# EAGLE library part AMS_AS5048B-HTSP (library Upverter Library)
AMS-AS5048B-TSSOP-14
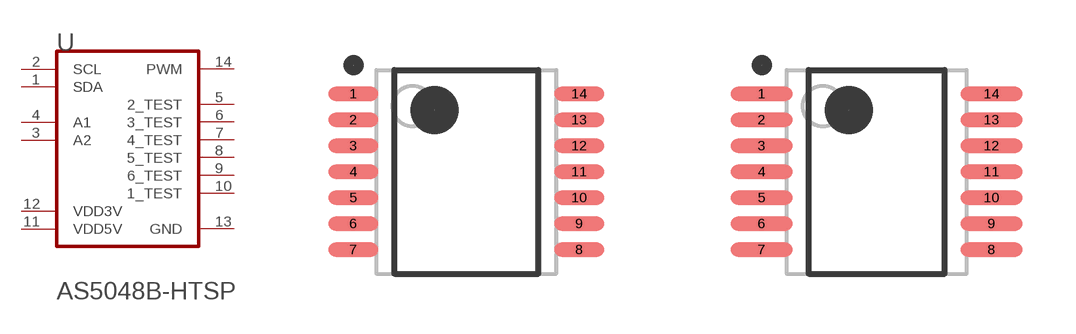
[diagram p0: symbol with the pads of AMS_AS5048B-HTSP_0; footprints AMS_AS5048B-HTSP_0, AMS_AS5048B-HTSP_1]

Designator prefix U

## AMS_AS5048B-HTSPAMS_AS5048B-HTSP_0_0 (Code__JEDEC: MO-153; Component_Link_1_Description: Manufacturer URL; Component_Link_1_URL: www.ams.com; Datasheet_Version: Rev. 1.3; Features: IÂ2C, PWM, In System Programmable; MF: AMS; MPN: AS5048B-HTSP; Mounting_Technology: Surface Mount; Output: IÂ2C, PWM; Package_Description: 14-Pin Small Outline Package, 5 x 4.4 mm Body, 0.65 mm Pitch; Package_Version: Rev. 2.7, 10/2010; Resolution: 14-bit; Supply_Voltage_V: 3.3 or 5.0; ciiva_ids: 4309606; datasheet: http://www.ams.com/eng/content/download/438523/1341157/143016; footprint_variant_name_0: Level C; footprint_variant_name_1: Level B; footprint_variant_name_2: Level A; import_ts: 1521856276; imported: yes; imported_from: vault; package: TSSOP-14; prefix: U; release_date: 1394513987; vault_guid: D2F2B1B8-6CC1-41D2-B61F-B80A391146BC; vault_revision: BD625296-4CE3-41FD-9A5A-ADE005AEECC9)  [AMS_AS5048B-HTSP_0]
1  SDA
2  SCL  in
3  A2  in
4  A1  in
5  2_TEST  in
6  3_TEST  in
7  4_TEST  in
8  5_TEST  in
9  6_TEST  in
10  1_TEST  in
11  VDD5V  pwr
12  VDD3V  pwr
13  GND  pwr
14  PWM  out

## AMS_AS5048B-HTSPAMS_AS5048B-HTSP_0_1 (Code__JEDEC: MO-153; Component_Link_1_Description: Manufacturer URL; Component_Link_1_URL: www.ams.com; Datasheet_Version: Rev. 1.3; Features: IÂ2C, PWM, In System Programmable; MF: AMS; MPN: AS5048B-HTSP; Mounting_Technology: Surface Mount; Output: IÂ2C, PWM; Package_Description: 14-Pin Small Outline Package, 5 x 4.4 mm Body, 0.65 mm Pitch; Package_Version: Rev. 2.7, 10/2010; Resolution: 14-bit; Supply_Voltage_V: 3.3 or 5.0; ciiva_ids: 4309606; datasheet: http://www.ams.com/eng/content/download/438523/1341157/143016; footprint_variant_name_0: Level C; footprint_variant_name_1: Level B; footprint_variant_name_2: Level A; import_ts: 1521856276; imported: yes; imported_from: vault; package: TSSOP-14; prefix: U; release_date: 1394513987; vault_guid: D2F2B1B8-6CC1-41D2-B61F-B80A391146BC; vault_revision: BD625296-4CE3-41FD-9A5A-ADE005AEECC9)  [AMS_AS5048B-HTSP_1]
Pads as for AMS_AS5048B-HTSP_0

## AMS_AS5048B-HTSPAMS_AS5048B-HTSP_0_2 (Code__JEDEC: MO-153; Component_Link_1_Description: Manufacturer URL; Component_Link_1_URL: www.ams.com; Datasheet_Version: Rev. 1.3; Features: IÂ2C, PWM, In System Programmable; MF: AMS; MPN: AS5048B-HTSP; Mounting_Technology: Surface Mount; Output: IÂ2C, PWM; Package_Description: 14-Pin Small Outline Package, 5 x 4.4 mm Body, 0.65 mm Pitch; Package_Version: Rev. 2.7, 10/2010; Resolution: 14-bit; Supply_Voltage_V: 3.3 or 5.0; ciiva_ids: 4309606; datasheet: http://www.ams.com/eng/content/download/438523/1341157/143016; footprint_variant_name_0: Level C; footprint_variant_name_1: Level B; footprint_variant_name_2: Level A; import_ts: 1521856276; imported: yes; imported_from: vault; package: TSSOP-14; prefix: U; release_date: 1394513987; vault_guid: D2F2B1B8-6CC1-41D2-B61F-B80A391146BC; vault_revision: BD625296-4CE3-41FD-9A5A-ADE005AEECC9)  [AMS_AS5048B-HTSP_2]
Pads as for AMS_AS5048B-HTSP_0

## Footprint AMS_AS5048B-HTSP_0 (pad centres in mm)
AMS-AS5048B-TSSOP-14
smd 1.25 x 0.35: 1 -2.825,1.95; 2 -2.825,1.3; 3 -2.825,0.65; 4 -2.825,0; 5 -2.825,-0.65; 6 -2.825,-1.3; 7 -2.825,-1.95; 8 2.825,-1.95; 9 2.825,-1.3; 10 2.825,-0.65; 11 2.825,0; 12 2.825,0.65; 13 2.825,1.3; 14 2.825,1.95

## Footprint AMS_AS5048B-HTSP_1 (pad centres in mm)
AMS-AS5048B-TSSOP-14
smd 1.55 x 0.35: 1 -2.875,1.95; 2 -2.875,1.3; 3 -2.875,0.65; 4 -2.875,0; 5 -2.875,-0.65; 6 -2.875,-1.3; 7 -2.875,-1.95; 8 2.875,-1.95; 9 2.875,-1.3; 10 2.875,-0.65; 11 2.875,0; 12 2.875,0.65; 13 2.875,1.3; 14 2.875,1.95

## Footprint AMS_AS5048B-HTSP_2 (pad centres in mm)
AMS-AS5048B-TSSOP-14
smd 1.85 x 0.35: 1 -2.925,1.95; 2 -2.925,1.3; 3 -2.925,0.65; 4 -2.925,0; 5 -2.925,-0.65; 6 -2.925,-1.3; 7 -2.925,-1.95; 8 2.925,-1.95; 9 2.925,-1.3; 10 2.925,-0.65; 11 2.925,0; 12 2.925,0.65; 13 2.925,1.3; 14 2.925,1.95